# Altium footprint library Generic Connector.PcbLib: 143 footprints (part 6 of 9)
Each footprint in its own frame and in the unit in brackets; x right, y up, seen from the top. Pads: shape width x height; smd on the part's side, far side on the other; paste and mask are expansions set on the pad; w line width, h text height; cw(c..) or ccw(c..) is an arc to the next point about the centre after c.
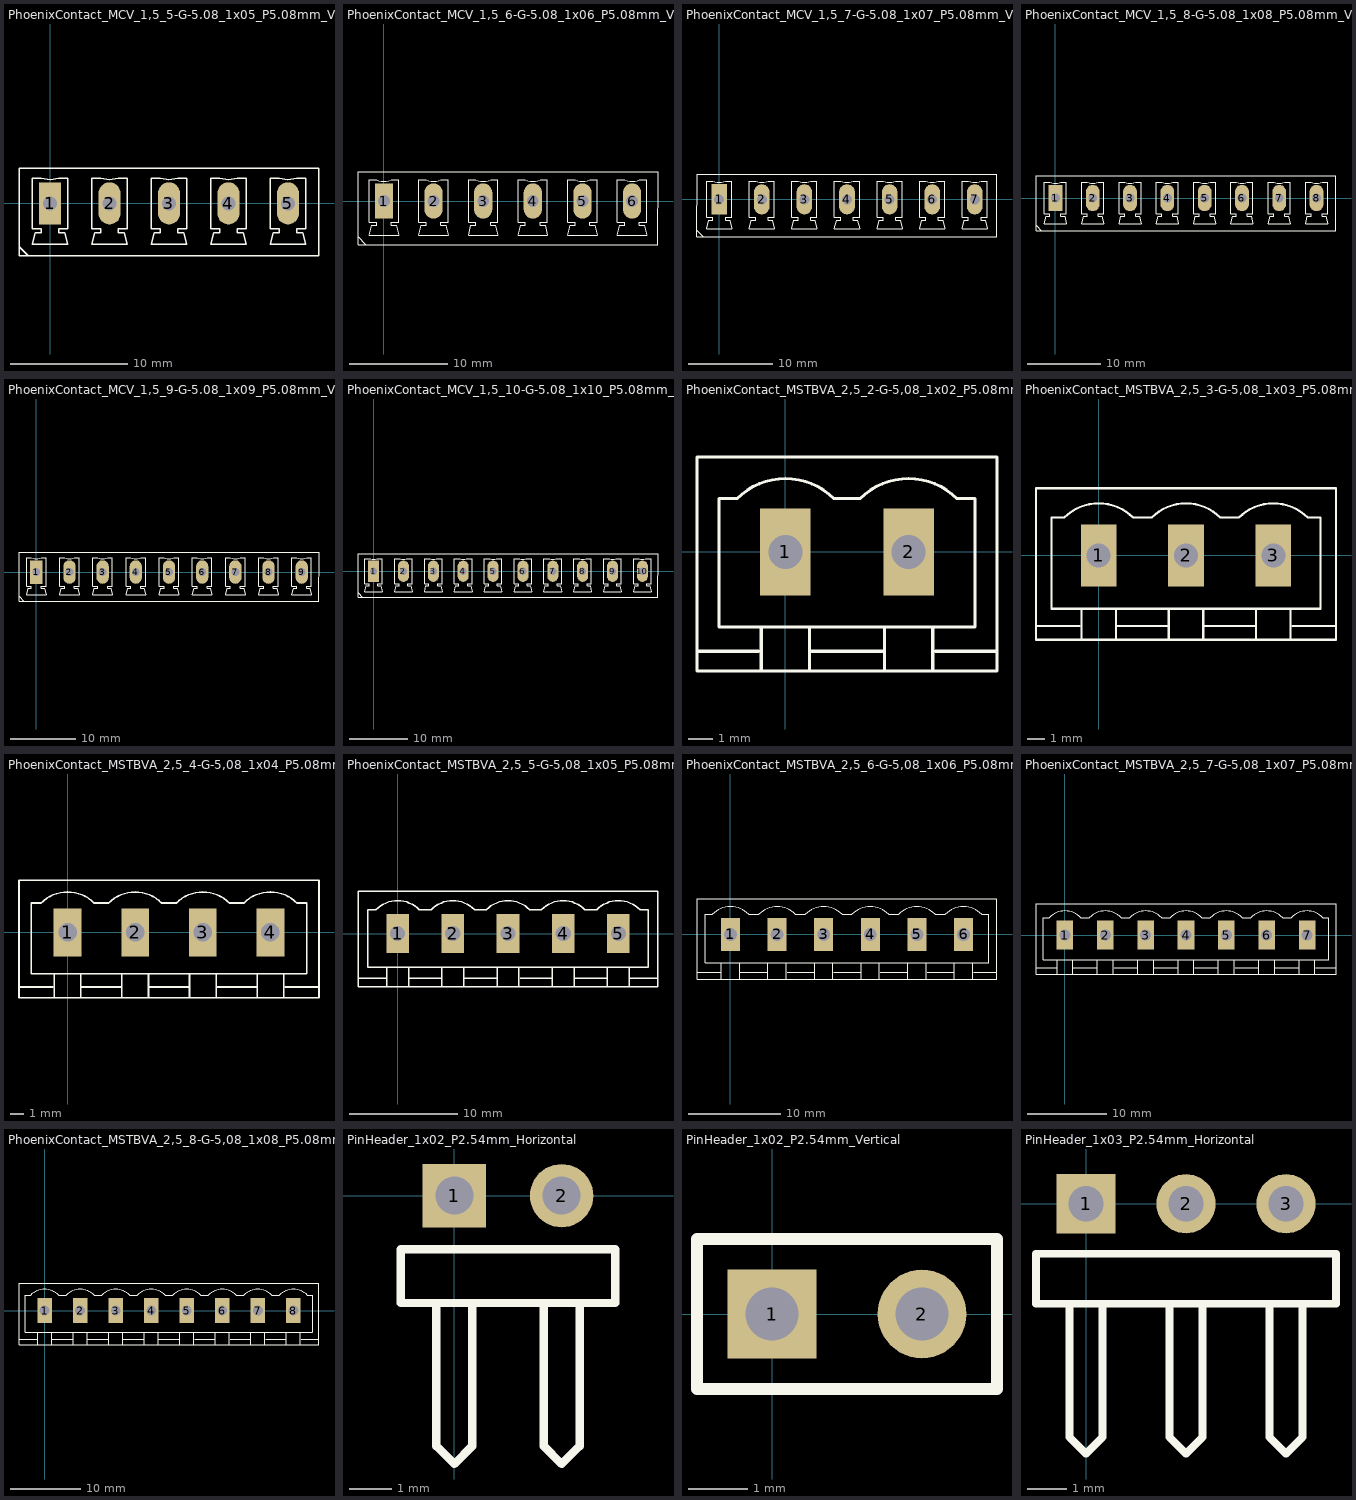
[diagram p5: the footprints below, top view; thin cyan lines are the x and y axes]

## PhoenixContact_MCV_1,5_5-G-5.08_1x05_P5.08mm_Vertical [mm]
pads (5):
  rect 1.87x3.6 hole 1.2: 1(0,0)
  oval 1.87x3.6 hole 1.2: 2(5.08,0) 3(10.16,0) 4(15.24,0) 5(20.32,0)
Top Overlay:
  lines w0.127: -2.65,-3.683 -1.905,-4.445 ; -2.65,-4.46 -2.65,3.01 22.97,3.01 22.97,-4.46 -2.65,-4.46 ; -1.5,-3.5 1.5,-3.5 1.25,-2.5 0.75,-2.5 0.75,-2.15 1.5,-2.15 1.5,2.15 0.75,2.15 cw(c0,4.474) -0.75,2.15 -1.5,2.15 -1.5,-2.15 -0.75,-2.15 -0.75,-2.5 -1.25,-2.5 -1.5,-3.5 ; 3.58,-3.5 3.83,-2.5 4.33,-2.5 4.33,-2.15 3.58,-2.15 3.58,2.15 4.33,2.15 ccw(c5.08,4.474) 5.83,2.15 6.58,2.15 6.58,-2.15 5.83,-2.15 5.83,-2.5 6.33,-2.5 6.58,-3.5 3.58,-3.5 ; 8.66,-3.5 8.91,-2.5 9.41,-2.5 9.41,-2.15 8.66,-2.15 8.66,2.15 9.41,2.15 ccw(c10.16,4.474) 10.91,2.15 11.66,2.15 11.66,-2.15 10.91,-2.15 10.91,-2.5 11.41,-2.5 11.66,-3.5 8.66,-3.5 ; 13.74,-3.5 16.74,-3.5 16.49,-2.5 15.99,-2.5 15.99,-2.15 16.74,-2.15 16.74,2.15 15.99,2.15 cw(c15.24,4.474) 14.49,2.15 13.74,2.15 13.74,-2.15 14.49,-2.15 14.49,-2.5 13.99,-2.5 13.74,-3.5 ; 18.82,-3.5 19.07,-2.5 19.57,-2.5 19.57,-2.15 18.82,-2.15 18.82,2.15 19.57,2.15 ccw(c20.32,4.474) 21.07,2.15 21.82,2.15 21.82,-2.15 21.07,-2.15 21.07,-2.5 21.57,-2.5 21.82,-3.5 18.82,-3.5

## PhoenixContact_MCV_1,5_6-G-5.08_1x06_P5.08mm_Vertical [mm]
pads (6):
  rect 1.87x3.6 hole 1.2: 1(0,0)
  oval 1.87x3.6 hole 1.2: 2(5.08,0) 3(10.16,0) 4(15.24,0) 5(20.32,0) 6(25.4,0)
Top Overlay:
  lines w0.127: -2.65,-3.683 -1.905,-4.445 ; -2.65,-4.46 28.05,-4.46 28.05,3.01 -2.65,3.01 -2.65,-4.46 ; -1.5,-3.5 -1.25,-2.5 -0.75,-2.5 -0.75,-2.15 -1.5,-2.15 -1.5,2.15 -0.75,2.15 ccw(c0,4.474) 0.75,2.15 1.5,2.15 1.5,-2.15 0.75,-2.15 0.75,-2.5 1.25,-2.5 1.5,-3.5 -1.5,-3.5 ; 3.58,-3.5 6.58,-3.5 6.33,-2.5 5.83,-2.5 5.83,-2.15 6.58,-2.15 6.58,2.15 5.83,2.15 cw(c5.08,4.474) 4.33,2.15 3.58,2.15 3.58,-2.15 4.33,-2.15 4.33,-2.5 3.83,-2.5 3.58,-3.5 ; 8.66,-3.5 11.66,-3.5 11.41,-2.5 10.91,-2.5 10.91,-2.15 11.66,-2.15 11.66,2.15 10.91,2.15 cw(c10.16,4.474) 9.41,2.15 8.66,2.15 8.66,-2.15 9.41,-2.15 9.41,-2.5 8.91,-2.5 8.66,-3.5 ; 13.74,-3.5 13.99,-2.5 14.49,-2.5 14.49,-2.15 13.74,-2.15 13.74,2.15 14.49,2.15 ccw(c15.24,4.474) 15.99,2.15 16.74,2.15 16.74,-2.15 15.99,-2.15 15.99,-2.5 16.49,-2.5 16.74,-3.5 13.74,-3.5 ; 18.82,-3.5 21.82,-3.5 21.57,-2.5 21.07,-2.5 21.07,-2.15 21.82,-2.15 21.82,2.15 21.07,2.15 cw(c20.32,4.474) 19.57,2.15 18.82,2.15 18.82,-2.15 19.57,-2.15 19.57,-2.5 19.07,-2.5 18.82,-3.5 ; 23.9,-3.5 24.15,-2.5 24.65,-2.5 24.65,-2.15 23.9,-2.15 23.9,2.15 24.65,2.15 ccw(c25.4,4.474) 26.15,2.15 26.9,2.15 26.9,-2.15 26.15,-2.15 26.15,-2.5 26.65,-2.5 26.9,-3.5 23.9,-3.5

## PhoenixContact_MCV_1,5_7-G-5.08_1x07_P5.08mm_Vertical [mm]
pads (7):
  rect 1.87x3.6 hole 1.2: 1(0,0)
  oval 1.87x3.6 hole 1.2: 2(5.08,0) 3(10.16,0) 4(15.24,0) 5(20.32,0) 6(25.4,0) 7(30.48,0)
Top Overlay:
  lines w0.127: -2.65,-3.683 -1.905,-4.445 ; -2.65,-4.46 -2.65,3.01 33.13,3.01 33.13,-4.46 -2.65,-4.46 ; -1.5,-3.5 1.5,-3.5 1.25,-2.5 0.75,-2.5 0.75,-2.15 1.5,-2.15 1.5,2.15 0.75,2.15 cw(c0,4.474) -0.75,2.15 -1.5,2.15 -1.5,-2.15 -0.75,-2.15 -0.75,-2.5 -1.25,-2.5 -1.5,-3.5 ; 3.58,-3.5 3.83,-2.5 4.33,-2.5 4.33,-2.15 3.58,-2.15 3.58,2.15 4.33,2.15 ccw(c5.08,4.474) 5.83,2.15 6.58,2.15 6.58,-2.15 5.83,-2.15 5.83,-2.5 6.33,-2.5 6.58,-3.5 3.58,-3.5 ; 8.66,-3.5 8.91,-2.5 9.41,-2.5 9.41,-2.15 8.66,-2.15 8.66,2.15 9.41,2.15 ccw(c10.16,4.474) 10.91,2.15 11.66,2.15 11.66,-2.15 10.91,-2.15 10.91,-2.5 11.41,-2.5 11.66,-3.5 8.66,-3.5 ; 13.74,-3.5 16.74,-3.5 16.49,-2.5 15.99,-2.5 15.99,-2.15 16.74,-2.15 16.74,2.15 15.99,2.15 cw(c15.24,4.474) 14.49,2.15 13.74,2.15 13.74,-2.15 14.49,-2.15 14.49,-2.5 13.99,-2.5 13.74,-3.5 ; 18.82,-3.5 19.07,-2.5 19.57,-2.5 19.57,-2.15 18.82,-2.15 18.82,2.15 19.57,2.15 ccw(c20.32,4.474) 21.07,2.15 21.82,2.15 21.82,-2.15 21.07,-2.15 21.07,-2.5 21.57,-2.5 21.82,-3.5 18.82,-3.5 ; 23.9,-3.5 26.9,-3.5 26.65,-2.5 26.15,-2.5 26.15,-2.15 26.9,-2.15 26.9,2.15 26.15,2.15 cw(c25.4,4.474) 24.65,2.15 23.9,2.15 23.9,-2.15 24.65,-2.15 24.65,-2.5 24.15,-2.5 23.9,-3.5 ; 28.98,-3.5 29.23,-2.5 29.73,-2.5 29.73,-2.15 28.98,-2.15 28.98,2.15 29.73,2.15 ccw(c30.48,4.474) 31.23,2.15 31.98,2.15 31.98,-2.15 31.23,-2.15 31.23,-2.5 31.73,-2.5 31.98,-3.5 28.98,-3.5

## PhoenixContact_MCV_1,5_8-G-5.08_1x08_P5.08mm_Vertical [mm]
pads (8):
  rect 1.87x3.6 hole 1.2: 1(0,0)
  oval 1.87x3.6 hole 1.2: 2(5.08,0) 3(10.16,0) 4(15.24,0) 5(20.32,0) 6(25.4,0) 7(30.48,0) 8(35.56,0)
Top Overlay:
  lines w0.127: -2.65,-3.683 -1.905,-4.445 ; -2.65,-4.46 -2.65,3.01 38.21,3.01 38.21,-4.46 -2.65,-4.46 ; -1.5,-3.5 1.5,-3.5 1.25,-2.5 0.75,-2.5 0.75,-2.15 1.5,-2.15 1.5,2.15 0.75,2.15 cw(c0,4.474) -0.75,2.15 -1.5,2.15 -1.5,-2.15 -0.75,-2.15 -0.75,-2.5 -1.25,-2.5 -1.5,-3.5 ; 3.58,-3.5 3.83,-2.5 4.33,-2.5 4.33,-2.15 3.58,-2.15 3.58,2.15 4.33,2.15 ccw(c5.08,4.474) 5.83,2.15 6.58,2.15 6.58,-2.15 5.83,-2.15 5.83,-2.5 6.33,-2.5 6.58,-3.5 3.58,-3.5 ; 8.66,-3.5 8.91,-2.5 9.41,-2.5 9.41,-2.15 8.66,-2.15 8.66,2.15 9.41,2.15 ccw(c10.16,4.474) 10.91,2.15 11.66,2.15 11.66,-2.15 10.91,-2.15 10.91,-2.5 11.41,-2.5 11.66,-3.5 8.66,-3.5 ; 13.74,-3.5 16.74,-3.5 16.49,-2.5 15.99,-2.5 15.99,-2.15 16.74,-2.15 16.74,2.15 15.99,2.15 cw(c15.24,4.474) 14.49,2.15 13.74,2.15 13.74,-2.15 14.49,-2.15 14.49,-2.5 13.99,-2.5 13.74,-3.5 ; 18.82,-3.5 19.07,-2.5 19.57,-2.5 19.57,-2.15 18.82,-2.15 18.82,2.15 19.57,2.15 ccw(c20.32,4.474) 21.07,2.15 21.82,2.15 21.82,-2.15 21.07,-2.15 21.07,-2.5 21.57,-2.5 21.82,-3.5 18.82,-3.5 ; 23.9,-3.5 26.9,-3.5 26.65,-2.5 26.15,-2.5 26.15,-2.15 26.9,-2.15 26.9,2.15 26.15,2.15 cw(c25.4,4.474) 24.65,2.15 23.9,2.15 23.9,-2.15 24.65,-2.15 24.65,-2.5 24.15,-2.5 23.9,-3.5 ; 28.98,-3.5 29.23,-2.5 29.73,-2.5 29.73,-2.15 28.98,-2.15 28.98,2.15 29.73,2.15 ccw(c30.48,4.474) 31.23,2.15 31.98,2.15 31.98,-2.15 31.23,-2.15 31.23,-2.5 31.73,-2.5 31.98,-3.5 28.98,-3.5 ; 34.06,-3.5 37.06,-3.5 36.81,-2.5 36.31,-2.5 36.31,-2.15 37.06,-2.15 37.06,2.15 36.31,2.15 cw(c35.56,4.474) 34.81,2.15 34.06,2.15 34.06,-2.15 34.81,-2.15 34.81,-2.5 34.31,-2.5 34.06,-3.5

## PhoenixContact_MCV_1,5_9-G-5.08_1x09_P5.08mm_Vertical [mm]
pads (9):
  rect 1.87x3.6 hole 1.2: 1(0,0)
  oval 1.87x3.6 hole 1.2: 2(5.08,0) 3(10.16,0) 4(15.24,0) 5(20.32,0) 6(25.4,0) 7(30.48,0) 8(35.56,0) 9(40.64,0)
Top Overlay:
  lines w0.127: -2.65,-3.683 -1.905,-4.445 ; -2.65,-4.46 43.29,-4.46 43.29,3.01 -2.65,3.01 -2.65,-4.46 ; -1.5,-3.5 -1.25,-2.5 -0.75,-2.5 -0.75,-2.15 -1.5,-2.15 -1.5,2.15 -0.75,2.15 ccw(c0,4.474) 0.75,2.15 1.5,2.15 1.5,-2.15 0.75,-2.15 0.75,-2.5 1.25,-2.5 1.5,-3.5 -1.5,-3.5 ; 3.58,-3.5 6.58,-3.5 6.33,-2.5 5.83,-2.5 5.83,-2.15 6.58,-2.15 6.58,2.15 5.83,2.15 cw(c5.08,4.474) 4.33,2.15 3.58,2.15 3.58,-2.15 4.33,-2.15 4.33,-2.5 3.83,-2.5 3.58,-3.5 ; 8.66,-3.5 11.66,-3.5 11.41,-2.5 10.91,-2.5 10.91,-2.15 11.66,-2.15 11.66,2.15 10.91,2.15 cw(c10.16,4.474) 9.41,2.15 8.66,2.15 8.66,-2.15 9.41,-2.15 9.41,-2.5 8.91,-2.5 8.66,-3.5 ; 13.74,-3.5 13.99,-2.5 14.49,-2.5 14.49,-2.15 13.74,-2.15 13.74,2.15 14.49,2.15 ccw(c15.24,4.474) 15.99,2.15 16.74,2.15 16.74,-2.15 15.99,-2.15 15.99,-2.5 16.49,-2.5 16.74,-3.5 13.74,-3.5 ; 18.82,-3.5 21.82,-3.5 21.57,-2.5 21.07,-2.5 21.07,-2.15 21.82,-2.15 21.82,2.15 21.07,2.15 cw(c20.32,4.474) 19.57,2.15 18.82,2.15 18.82,-2.15 19.57,-2.15 19.57,-2.5 19.07,-2.5 18.82,-3.5 ; 23.9,-3.5 24.15,-2.5 24.65,-2.5 24.65,-2.15 23.9,-2.15 23.9,2.15 24.65,2.15 ccw(c25.4,4.474) 26.15,2.15 26.9,2.15 26.9,-2.15 26.15,-2.15 26.15,-2.5 26.65,-2.5 26.9,-3.5 23.9,-3.5 ; 28.98,-3.5 31.98,-3.5 31.73,-2.5 31.23,-2.5 31.23,-2.15 31.98,-2.15 31.98,2.15 31.23,2.15 cw(c30.48,4.474) 29.73,2.15 28.98,2.15 28.98,-2.15 29.73,-2.15 29.73,-2.5 29.23,-2.5 28.98,-3.5 ; 34.06,-3.5 34.31,-2.5 34.81,-2.5 34.81,-2.15 34.06,-2.15 34.06,2.15 34.81,2.15 ccw(c35.56,4.474) 36.31,2.15 37.06,2.15 37.06,-2.15 36.31,-2.15 36.31,-2.5 36.81,-2.5 37.06,-3.5 34.06,-3.5 ; 39.14,-3.5 42.14,-3.5 41.89,-2.5 41.39,-2.5 41.39,-2.15 42.14,-2.15 42.14,2.15 41.39,2.15 cw(c40.64,4.474) 39.89,2.15 39.14,2.15 39.14,-2.15 39.89,-2.15 39.89,-2.5 39.39,-2.5 39.14,-3.5

## PhoenixContact_MCV_1,5_10-G-5.08_1x10_P5.08mm_Vertical [mm]
pads (10):
  rect 1.87x3.6 hole 1.2: 1(0,0)
  oval 1.87x3.6 hole 1.2: 2(5.08,0) 3(10.16,0) 4(15.24,0) 5(20.32,0) 6(25.4,0) 7(30.48,0) 8(35.56,0) 9(40.64,0) 10(45.72,0)
Top Overlay:
  lines w0.127: -2.65,-3.683 -1.905,-4.445 ; -2.65,-4.46 -2.65,3.01 48.37,3.01 48.37,-4.46 -2.65,-4.46 ; -1.5,-3.5 1.5,-3.5 1.25,-2.5 0.75,-2.5 0.75,-2.15 1.5,-2.15 1.5,2.15 0.75,2.15 cw(c0,4.474) -0.75,2.15 -1.5,2.15 -1.5,-2.15 -0.75,-2.15 -0.75,-2.5 -1.25,-2.5 -1.5,-3.5 ; 3.58,-3.5 3.83,-2.5 4.33,-2.5 4.33,-2.15 3.58,-2.15 3.58,2.15 4.33,2.15 ccw(c5.08,4.474) 5.83,2.15 6.58,2.15 6.58,-2.15 5.83,-2.15 5.83,-2.5 6.33,-2.5 6.58,-3.5 3.58,-3.5 ; 8.66,-3.5 8.91,-2.5 9.41,-2.5 9.41,-2.15 8.66,-2.15 8.66,2.15 9.41,2.15 ccw(c10.16,4.474) 10.91,2.15 11.66,2.15 11.66,-2.15 10.91,-2.15 10.91,-2.5 11.41,-2.5 11.66,-3.5 8.66,-3.5 ; 13.74,-3.5 16.74,-3.5 16.49,-2.5 15.99,-2.5 15.99,-2.15 16.74,-2.15 16.74,2.15 15.99,2.15 cw(c15.24,4.474) 14.49,2.15 13.74,2.15 13.74,-2.15 14.49,-2.15 14.49,-2.5 13.99,-2.5 13.74,-3.5 ; 18.82,-3.5 19.07,-2.5 19.57,-2.5 19.57,-2.15 18.82,-2.15 18.82,2.15 19.57,2.15 ccw(c20.32,4.474) 21.07,2.15 21.82,2.15 21.82,-2.15 21.07,-2.15 21.07,-2.5 21.57,-2.5 21.82,-3.5 18.82,-3.5 ; 23.9,-3.5 26.9,-3.5 26.65,-2.5 26.15,-2.5 26.15,-2.15 26.9,-2.15 26.9,2.15 26.15,2.15 cw(c25.4,4.474) 24.65,2.15 23.9,2.15 23.9,-2.15 24.65,-2.15 24.65,-2.5 24.15,-2.5 23.9,-3.5 ; 28.98,-3.5 29.23,-2.5 29.73,-2.5 29.73,-2.15 28.98,-2.15 28.98,2.15 29.73,2.15 ccw(c30.48,4.474) 31.23,2.15 31.98,2.15 31.98,-2.15 31.23,-2.15 31.23,-2.5 31.73,-2.5 31.98,-3.5 28.98,-3.5 ; 34.06,-3.5 37.06,-3.5 36.81,-2.5 36.31,-2.5 36.31,-2.15 37.06,-2.15 37.06,2.15 36.31,2.15 cw(c35.56,4.474) 34.81,2.15 34.06,2.15 34.06,-2.15 34.81,-2.15 34.81,-2.5 34.31,-2.5 34.06,-3.5 ; 39.14,-3.5 39.39,-2.5 39.89,-2.5 39.89,-2.15 39.14,-2.15 39.14,2.15 39.89,2.15 ccw(c40.64,4.474) 41.39,2.15 42.14,2.15 42.14,-2.15 41.39,-2.15 41.39,-2.5 41.89,-2.5 42.14,-3.5 39.14,-3.5 ; 44.22,-3.5 47.22,-3.5 46.97,-2.5 46.47,-2.5 46.47,-2.15 47.22,-2.15 47.22,2.15 46.47,2.15 cw(c45.72,4.474) 44.97,2.15 44.22,2.15 44.22,-2.15 44.97,-2.15 44.97,-2.5 44.47,-2.5 44.22,-3.5

## PhoenixContact_MSTBVA_2,5_2-G-5,08_1x02_P5.08mm_Vertical [mm]
pads (2):
  rect 2.08x3.6 hole 1.4: 1(0,0) 2(5.08,0)
Top Overlay:
  lines w0.127: -3.65,-4.1 -1.11,-4.1 ; -1,-4.91 -1,-3.1 ; 1,-4.91 1,-3.1 ; 1.016,-4.1 4.044,-4.1 ; 4.08,-4.91 4.08,-3.1 ; 6.08,-4.91 6.08,-3.1 ; 6.19,-4.1 8.73,-4.1 ; -3.65,-4.91 -3.65,3.91 8.73,3.91 8.73,-4.91 -3.65,-4.91 ; -2.74,-3.1 -2.74,2.2 -2,2.2 cw(c0,0.2) 2,2.2 3.08,2.2 cw(c5.08,0.2) 7.08,2.2 7.82,2.2 7.82,-3.1 -2.74,-3.1

## PhoenixContact_MSTBVA_2,5_3-G-5,08_1x03_P5.08mm_Vertical [mm]
pads (3):
  rect 2.08x3.6 hole 1.4: 1(0,0) 2(5.08,0) 3(10.16,0)
Top Overlay:
  lines w0.127: -3.65,-4.1 -1.11,-4.1 ; -1,-4.91 -1,-3.1 ; 1,-4.91 1,-3.1 ; 1.016,-4.1 4.044,-4.1 ; 4.08,-4.91 4.08,-3.1 ; 6.08,-4.91 6.08,-3.1 ; 6.19,-4.1 9.144,-4.1 ; 9.16,-4.91 9.16,-3.1 ; 11.16,-4.91 11.16,-3.1 ; 11.27,-4.1 13.81,-4.1 ; -3.65,-4.91 13.81,-4.91 13.81,3.91 -3.65,3.91 -3.65,-4.91 ; -2.74,-3.1 12.9,-3.1 12.9,2.2 12.16,2.2 ccw(c10.16,0.2) 8.16,2.2 7.08,2.2 ccw(c5.08,0.2) 3.08,2.2 2,2.2 ccw(c0,0.2) -2,2.2 -2.74,2.2 -2.74,-3.1

## PhoenixContact_MSTBVA_2,5_4-G-5,08_1x04_P5.08mm_Vertical [mm]
pads (4):
  rect 2.08x3.6 hole 1.4: 1(0,0) 2(5.08,0) 3(10.16,0) 4(15.24,0)
Top Overlay:
  lines w0.127: -3.65,-4.1 -1.11,-4.1 ; -1,-4.91 -1,-3.1 ; 1,-4.91 1,-3.1 ; 1.016,-4.1 4.044,-4.1 ; 4.08,-4.91 4.08,-3.1 ; 6.08,-4.91 6.08,-3.1 ; 6.19,-4.1 9.144,-4.1 ; 9.16,-4.91 9.16,-3.1 ; 11.16,-4.91 11.16,-3.1 ; 11.27,-4.1 14.24,-4.1 ; 14.24,-4.91 14.24,-3.1 ; 16.24,-4.91 16.24,-3.1 ; 16.35,-4.1 18.89,-4.1 ; -3.65,-4.91 -3.65,3.91 18.89,3.91 18.89,-4.91 -3.65,-4.91 ; -2.74,-3.1 -2.74,2.2 -2,2.2 cw(c0,0.2) 2,2.2 3.08,2.2 cw(c5.08,0.2) 7.08,2.2 8.16,2.2 cw(c10.16,0.2) 12.16,2.2 13.24,2.2 cw(c15.24,0.2) 17.24,2.2 17.98,2.2 17.98,-3.1 -2.74,-3.1

## PhoenixContact_MSTBVA_2,5_5-G-5,08_1x05_P5.08mm_Vertical [mm]
pads (5):
  rect 2.08x3.6 hole 1.4: 1(0,0) 2(5.08,0) 3(10.16,0) 4(15.24,0) 5(20.32,0)
Top Overlay:
  lines w0.127: -3.65,-4.1 -1.11,-4.1 ; -1,-4.91 -1,-3.1 ; 1,-4.91 1,-3.1 ; 1.016,-4.1 4.044,-4.1 ; 4.08,-4.91 4.08,-3.1 ; 6.08,-4.91 6.08,-3.1 ; 6.19,-4.1 9.144,-4.1 ; 9.16,-4.91 9.16,-3.1 ; 11.16,-4.91 11.16,-3.1 ; 11.27,-4.1 14.24,-4.1 ; 14.24,-4.91 14.24,-3.1 ; 16.24,-4.91 16.24,-3.1 ; 16.35,-4.1 19.304,-4.1 ; 19.32,-4.91 19.32,-3.1 ; 21.32,-4.91 21.32,-3.1 ; 21.43,-4.1 23.97,-4.1 ; -3.65,-4.91 23.97,-4.91 23.97,3.91 -3.65,3.91 -3.65,-4.91 ; -2.74,-3.1 23.06,-3.1 23.06,2.2 22.32,2.2 ccw(c20.32,0.2) 18.32,2.2 17.24,2.2 ccw(c15.24,0.2) 13.24,2.2 12.16,2.2 ccw(c10.16,0.2) 8.16,2.2 7.08,2.2 ccw(c5.08,0.2) 3.08,2.2 2,2.2 ccw(c0,0.2) -2,2.2 -2.74,2.2 -2.74,-3.1

## PhoenixContact_MSTBVA_2,5_6-G-5,08_1x06_P5.08mm_Vertical [mm]
pads (6):
  rect 2.08x3.6 hole 1.4: 1(0,0) 2(5.08,0) 3(10.16,0) 4(15.24,0) 5(20.32,0) 6(25.4,0)
Top Overlay:
  lines w0.127: -3.65,-4.1 -1.11,-4.1 ; -1,-4.91 -1,-3.1 ; 1,-4.91 1,-3.1 ; 1.016,-4.1 4.044,-4.1 ; 4.08,-4.91 4.08,-3.1 ; 6.08,-4.91 6.08,-3.1 ; 6.19,-4.1 9.144,-4.1 ; 9.16,-4.91 9.16,-3.1 ; 11.16,-4.91 11.16,-3.1 ; 11.27,-4.1 14.24,-4.1 ; 14.24,-4.91 14.24,-3.1 ; 16.24,-4.91 16.24,-3.1 ; 16.35,-4.1 19.304,-4.1 ; 19.32,-4.91 19.32,-3.1 ; 21.32,-4.91 21.32,-3.1 ; 21.43,-4.1 24.4,-4.1 ; 24.4,-4.91 24.4,-3.1 ; 26.4,-4.91 26.4,-3.1 ; 26.51,-4.1 29.05,-4.1 ; -3.65,-4.91 -3.65,3.91 29.05,3.91 29.05,-4.91 -3.65,-4.91 ; -2.74,-3.1 -2.74,2.2 -2,2.2 cw(c0,0.2) 2,2.2 3.08,2.2 cw(c5.08,0.2) 7.08,2.2 8.16,2.2 cw(c10.16,0.2) 12.16,2.2 13.24,2.2 cw(c15.24,0.2) 17.24,2.2 18.32,2.2 cw(c20.32,0.2) 22.32,2.2 23.4,2.2 cw(c25.4,0.2) 27.4,2.2 28.14,2.2 28.14,-3.1 -2.74,-3.1

## PhoenixContact_MSTBVA_2,5_7-G-5,08_1x07_P5.08mm_Vertical [mm]
pads (7):
  rect 2.08x3.6 hole 1.4: 1(0,0) 2(5.08,0) 3(10.16,0) 4(15.24,0) 5(20.32,0) 6(25.4,0) 7(30.48,0)
Top Overlay:
  lines w0.127: -3.65,-4.1 -1.11,-4.1 ; -1,-4.91 -1,-3.1 ; 1,-4.91 1,-3.1 ; 1.016,-4.1 4.044,-4.1 ; 4.08,-4.91 4.08,-3.1 ; 6.08,-4.91 6.08,-3.1 ; 6.19,-4.1 9.144,-4.1 ; 9.16,-4.91 9.16,-3.1 ; 11.16,-4.91 11.16,-3.1 ; 11.27,-4.1 14.24,-4.1 ; 14.24,-4.91 14.24,-3.1 ; 16.24,-4.91 16.24,-3.1 ; 16.35,-4.1 19.304,-4.1 ; 19.32,-4.91 19.32,-3.1 ; 21.32,-4.91 21.32,-3.1 ; 21.43,-4.1 24.4,-4.1 ; 24.4,-4.91 24.4,-3.1 ; 26.4,-4.91 26.4,-3.1 ; 26.51,-4.1 29.464,-4.1 ; 29.48,-4.91 29.48,-3.1 ; 31.48,-4.91 31.48,-3.1 ; 31.59,-4.1 34.13,-4.1 ; -3.65,-4.91 -3.65,3.91 34.13,3.91 34.13,-4.91 -3.65,-4.91 ; -2.74,-3.1 -2.74,2.2 -2,2.2 cw(c0,0.2) 2,2.2 3.08,2.2 cw(c5.08,0.2) 7.08,2.2 8.16,2.2 cw(c10.16,0.2) 12.16,2.2 13.24,2.2 cw(c15.24,0.2) 17.24,2.2 18.32,2.2 cw(c20.32,0.2) 22.32,2.2 23.4,2.2 cw(c25.4,0.2) 27.4,2.2 28.48,2.2 cw(c30.48,0.2) 32.48,2.2 33.22,2.2 33.22,-3.1 -2.74,-3.1

## PhoenixContact_MSTBVA_2,5_8-G-5,08_1x08_P5.08mm_Vertical [mm]
pads (8):
  rect 2.08x3.6 hole 1.4: 1(0,0) 2(5.08,0) 3(10.16,0) 4(15.24,0) 5(20.32,0) 6(25.4,0) 7(30.48,0) 8(35.56,0)
Top Overlay:
  lines w0.127: -3.65,-4.1 -1.11,-4.1 ; -1,-4.91 -1,-3.1 ; 1,-4.91 1,-3.1 ; 1.016,-4.1 4.044,-4.1 ; 4.08,-4.91 4.08,-3.1 ; 6.08,-4.91 6.08,-3.1 ; 6.19,-4.1 9.144,-4.1 ; 9.16,-4.91 9.16,-3.1 ; 11.16,-4.91 11.16,-3.1 ; 11.27,-4.1 14.24,-4.1 ; 14.24,-4.91 14.24,-3.1 ; 16.24,-4.91 16.24,-3.1 ; 16.35,-4.1 19.304,-4.1 ; 19.32,-4.91 19.32,-3.1 ; 21.32,-4.91 21.32,-3.1 ; 21.43,-4.1 24.4,-4.1 ; 24.4,-4.91 24.4,-3.1 ; 26.4,-4.91 26.4,-3.1 ; 26.51,-4.1 29.464,-4.1 ; 29.48,-4.91 29.48,-3.1 ; 31.48,-4.91 31.48,-3.1 ; 31.59,-4.1 34.544,-4.1 ; 34.56,-4.91 34.56,-3.1 ; 36.56,-4.91 36.56,-3.1 ; 36.67,-4.1 39.21,-4.1 ; 38.227,-3.1 -2.74,-3.1 -2.74,2.2 -2,2.2 cw(c0,0.2) 2,2.2 3.08,2.2 cw(c5.08,0.2) 7.08,2.2 8.16,2.2 cw(c10.16,0.2) 12.16,2.2 13.24,2.2 cw(c15.24,0.2) 17.24,2.2 18.32,2.2 cw(c20.32,0.2) 22.32,2.2 23.4,2.2 cw(c25.4,0.2) 27.4,2.2 28.48,2.2 cw(c30.48,0.2) 32.48,2.2 33.56,2.2 cw(c35.56,0.2) 37.56,2.2 38.3,2.2 38.3,-3.1 ; -3.65,-4.91 -3.65,3.91 39.21,3.91 39.21,-4.91 -3.65,-4.91

## PinHeader_1x02_P2.54mm_Horizontal [mm] "Connector; Header; 2 Position; Right Angle"
pads (2):
  rect 1.5x1.5 hole 0.9: 1(0,0)
  round 1.5 hole 0.9: 2(2.54,0)
Top Overlay:
  lines w0.2: -0.423,-2.54 -0.423,-5.927 0,-6.35 0.423,-5.927 0.423,-2.54 ; 2.117,-2.54 2.117,-5.927 2.54,-6.35 2.963,-5.927 2.963,-2.54 ; -1.27,-2.54 3.81,-2.54 3.81,-1.27 -1.27,-1.27 -1.27,-2.54

## PinHeader_1x02_P2.54mm_Vertical [mm] "Connector; Header; 2 Position"
pads (2):
  rect 1.5x1.5 hole 0.9: 1(0,0)
  round 1.5 hole 0.9: 2(2.54,0)
Top Overlay:
  lines w0.2: -1.27,-1.27 -1.27,1.27 3.81,1.27 3.81,-1.27 -1.27,-1.27

## PinHeader_1x03_P2.54mm_Horizontal [mm] "Connector; Header; 3 Position; Right Angle"
pads (3):
  rect 1.5x1.5 hole 0.9: 1(0,0)
  round 1.5 hole 0.9: 2(2.54,0) 3(5.08,0)
Top Overlay:
  lines w0.2: -0.423,-2.54 -0.423,-5.927 0,-6.35 0.423,-5.927 0.423,-2.54 ; 2.117,-2.54 2.117,-5.927 2.54,-6.35 2.963,-5.927 2.963,-2.54 ; 4.657,-2.54 4.657,-5.927 5.08,-6.35 5.503,-5.927 5.503,-2.54 ; -1.27,-2.54 -1.27,-1.27 6.35,-1.27 6.35,-2.54 -1.27,-2.54